# Altium footprint library KXOB25-14X1F.PcbLib: 1 footprints
Each footprint in its own frame and in the unit in brackets; x right, y up, seen from the top. Pads: shape width x height; smd on the part's side, far side on the other; paste and mask are expansions set on the pad; w line width, h text height; cw(c..) or ccw(c..) is an arc to the next point about the centre after c.
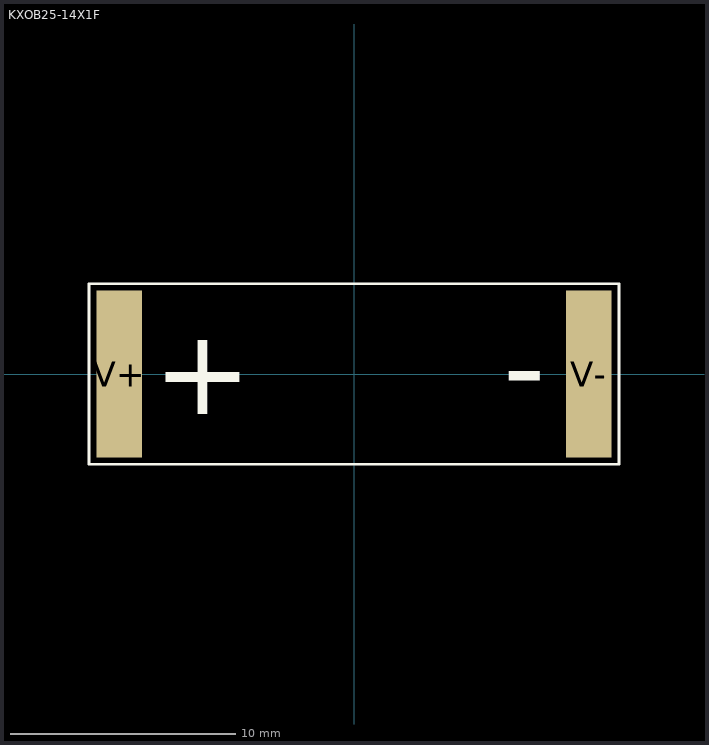
[diagram p0: the footprint, top view; thin cyan lines are the x and y axes]

## KXOB25-14X1F [mm]
pads (2):
  rect 2x7.4 smd: V+(-10.4,0) V-(10.4,0)
Top Overlay:
  lines w0.127: -11.75,-4 11.75,-4 11.75,4 -11.75,4 -11.75,-4
  text "+" at -8.89,-1.778 h3.81
  text "-" at 6.604,-1.524 h3.81